# Altium schematic symbol library FPGA.SchLib: 5 symbols
Pins are listed as number, name and electrical type; pins without a type are passive.

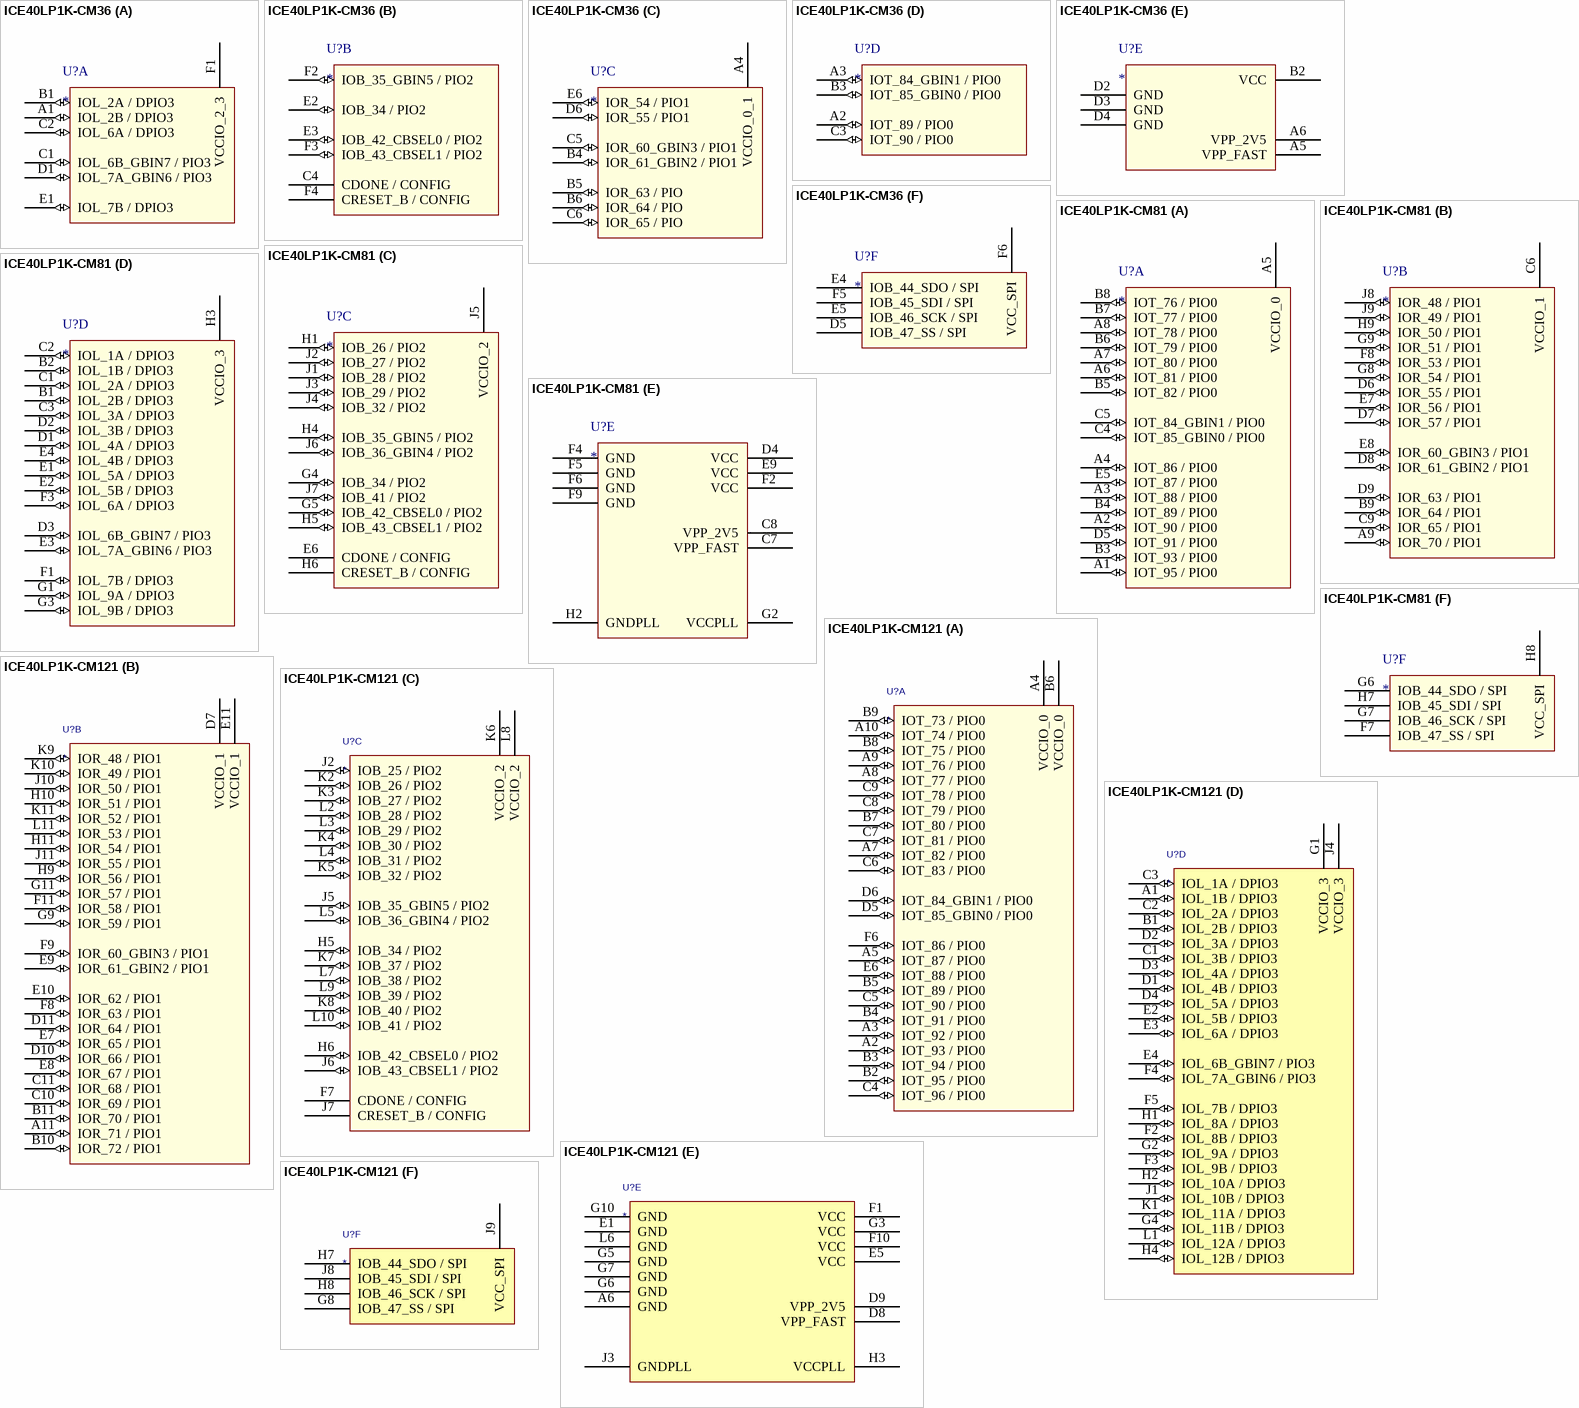
[diagram p0: symbols ICE40LP1K-CM36 to ICE40LP1K-CM121]

## ICE40LP1K-CM36
designator U?
CPLD
part A pins: A1 IOL_2B / DPIO3 (io), B1 IOL_2A / DPIO3 (io), C1 IOL_6B_GBIN7 / PIO3 (io), C2 IOL_6A / DPIO3 (io), D1 IOL_7A_GBIN6 / PIO3 (io), E1 IOL_7B / DPIO3 (io), F1 VCCIO_2_3
part B pins: C4 CDONE / CONFIG (power), E2 IOB_34 / PIO2 (io), E3 IOB_42_CBSEL0 / PIO2 (io), F2 IOB_35_GBIN5 / PIO2 (io), F3 IOB_43_CBSEL1 / PIO2 (io), F4 CRESET_B / CONFIG (power)
part C pins: A4 VCCIO_0_1, B4 IOR_61_GBIN2 / PIO1 (io), B5 IOR_63 / PIO (io), B6 IOR_64 / PIO (io), C5 IOR_60_GBIN3 / PIO1 (io), C6 IOR_65 / PIO (io), D6 IOR_55 / PIO1 (io), E6 IOR_54 / PIO1 (io)
part D pins: A2 IOT_89 / PIO0 (io), A3 IOT_84_GBIN1 / PIO0 (io), B3 IOT_85_GBIN0 / PIO0 (io), C3 IOT_90 / PIO0 (io)
part E pins: A5 VPP_FAST, A6 VPP_2V5 (power), B2 VCC (power), D2 GND (power), D3 GND (power), D4 GND (power)
part F pins: D5 IOB_47_SS / SPI (power), E4 IOB_44_SDO / SPI (power), E5 IOB_46_SCK / SPI (power), F5 IOB_45_SDI / SPI (power), F6 VCC_SPI (power)

## ICE40LP1K-CM81
designator U?
part A pins: A1 IOT_95 / PIO0 (io), A2 IOT_90 / PIO0 (io), A3 IOT_88 / PIO0 (io), A4 IOT_86 / PIO0 (io), A5 VCCIO_0 (power), A6 IOT_81 / PIO0 (io), A7 IOT_80 / PIO0 (io), A8 IOT_78 / PIO0 (io), B3 IOT_93 / PIO0 (io), B4 IOT_89 / PIO0 (io), B5 IOT_82 / PIO0 (io), B6 IOT_79 / PIO0 (io), B7 IOT_77 / PIO0 (io), B8 IOT_76 / PIO0 (io), C4 IOT_85_GBIN0 / PIO0 (io), C5 IOT_84_GBIN1 / PIO0 (io), D5 IOT_91 / PIO0 (io), E5 IOT_87 / PIO0 (io)
part B pins: A9 IOR_70 / PIO1 (io), B9 IOR_64 / PIO1 (io), C6 VCCIO_1 (power), C9 IOR_65 / PIO1 (io), D6 IOR_55 / PIO1 (io), D7 IOR_57 / PIO1 (io), D8 IOR_61_GBIN2 / PIO1 (io), D9 IOR_63 / PIO1 (io), E7 IOR_56 / PIO1 (io), E8 IOR_60_GBIN3 / PIO1 (io), F8 IOR_53 / PIO1 (io), G8 IOR_54 / PIO1 (io), G9 IOR_51 / PIO1 (io), H9 IOR_50 / PIO1 (io), J8 IOR_48 / PIO1 (io), J9 IOR_49 / PIO1 (io)
part C pins: E6 CDONE / CONFIG, G4 IOB_34 / PIO2 (io), G5 IOB_42_CBSEL0 / PIO2 (io), H1 IOB_26 / PIO2 (io), H4 IOB_35_GBIN5 / PIO2 (io), H5 IOB_43_CBSEL1 / PIO2 (io), H6 CRESET_B / CONFIG, J1 IOB_28 / PIO2 (io), J2 IOB_27 / PIO2 (io), J3 IOB_29 / PIO2 (io), J4 IOB_32 / PIO2 (io), J5 VCCIO_2 (power), J6 IOB_36_GBIN4 / PIO2 (io), J7 IOB_41 / PIO2 (io)
part D pins: B1 IOL_2B / DPIO3 (io), B2 IOL_1B / DPIO3 (io), C1 IOL_2A / DPIO3 (io), C2 IOL_1A / DPIO3 (io), C3 IOL_3A / DPIO3 (io), D1 IOL_4A / DPIO3 (io), D2 IOL_3B / DPIO3 (io), D3 IOL_6B_GBIN7 / PIO3 (io), E1 IOL_5A / DPIO3 (io), E2 IOL_5B / DPIO3 (io), E3 IOL_7A_GBIN6 / PIO3 (io), E4 IOL_4B / DPIO3 (io), F1 IOL_7B / DPIO3 (io), F3 IOL_6A / DPIO3 (io), G1 IOL_9A / DPIO3 (io), G3 IOL_9B / DPIO3 (io), H3 VCCIO_3 (power)
part E pins: C7 VPP_FAST, C8 VPP_2V5, D4 VCC, E9 VCC, F2 VCC, F4 GND (power), F5 GND (power), F6 GND (power), F9 GND (power), G2 VCCPLL, H2 GNDPLL
part F pins: F7 IOB_47_SS / SPI, G6 IOB_44_SDO / SPI, G7 IOB_46_SCK / SPI, H7 IOB_45_SDI / SPI, H8 VCC_SPI

## ICE40LP1K-CM121
designator U?
part A pins: A2 IOT_93 / PIO0 (io), A3 IOT_92 / PIO0 (io), A4 VCCIO_0 (power), A5 IOT_87 / PIO0 (io), A7 IOT_82 / PIO0 (io), A8 IOT_77 / PIO0 (io), A9 IOT_76 / PIO0 (io), A10 IOT_74 / PIO0 (io), B2 IOT_95 / PIO0 (io), B3 IOT_94 / PIO0 (io), B4 IOT_91 / PIO0 (io), B5 IOT_89 / PIO0 (io), B6 VCCIO_0 (power), B7 IOT_80 / PIO0 (io), B8 IOT_75 / PIO0 (io), B9 IOT_73 / PIO0 (io), C4 IOT_96 / PIO0 (io), C5 IOT_90 / PIO0 (io), C6 IOT_83 / PIO0 (io), C7 IOT_81 / PIO0 (io), C8 IOT_79 / PIO0 (io), C9 IOT_78 / PIO0 (io), D5 IOT_85_GBIN0 / PIO0 (io), D6 IOT_84_GBIN1 / PIO0 (io), E6 IOT_88 / PIO0 (io), F6 IOT_86 / PIO0 (io)
part B pins: A11 IOR_71 / PIO1 (io), B10 IOR_72 / PIO1 (io), B11 IOR_70 / PIO1 (io), C10 IOR_69 / PIO1 (io), C11 IOR_68 / PIO1 (io), D7 VCCIO_1 (power), D10 IOR_66 / PIO1 (io), D11 IOR_64 / PIO1 (io), E7 IOR_65 / PIO1 (io), E8 IOR_67 / PIO1 (io), E9 IOR_61_GBIN2 / PIO1 (io), E10 IOR_62 / PIO1 (io), E11 VCCIO_1 (power), F8 IOR_63 / PIO1 (io), F9 IOR_60_GBIN3 / PIO1 (io), F11 IOR_58 / PIO1 (io), G9 IOR_59 / PIO1 (io), G11 IOR_57 / PIO1 (io), H9 IOR_56 / PIO1 (io), H10 IOR_51 / PIO1 (io), H11 IOR_54 / PIO1 (io), J10 IOR_50 / PIO1 (io), J11 IOR_55 / PIO1 (io), K9 IOR_48 / PIO1 (io), K10 IOR_49 / PIO1 (io), K11 IOR_52 / PIO1 (io), L11 IOR_53 / PIO1 (io)
part C pins: F7 CDONE / CONFIG, H5 IOB_34 / PIO2 (io), H6 IOB_42_CBSEL0 / PIO2 (io), J2 IOB_25 / PIO2 (io), J5 IOB_35_GBIN5 / PIO2 (io), J6 IOB_43_CBSEL1 / PIO2 (io), J7 CRESET_B / CONFIG, K2 IOB_26 / PIO2 (io), K3 IOB_27 / PIO2 (io), K4 IOB_30 / PIO2 (io), K5 IOB_32 / PIO2 (io), K6 VCCIO_2 (power), K7 IOB_37 / PIO2 (io), K8 IOB_40 / PIO2 (io), L2 IOB_28 / PIO2 (io), L3 IOB_29 / PIO2 (io), L4 IOB_31 / PIO2 (io), L5 IOB_36_GBIN4 / PIO2 (io), L7 IOB_38 / PIO2 (io), L8 VCCIO_2 (power), L9 IOB_39 / PIO2 (io), L10 IOB_41 / PIO2 (io)
part D pins: A1 IOL_1B / DPIO3 (io), B1 IOL_2B / DPIO3 (io), C1 IOL_3B / DPIO3 (io), C2 IOL_2A / DPIO3 (io), C3 IOL_1A / DPIO3 (io), D1 IOL_4B / DPIO3 (io), D2 IOL_3A / DPIO3 (io), D3 IOL_4A / DPIO3 (io), D4 IOL_5A / DPIO3 (io), E2 IOL_5B / DPIO3 (io), E3 IOL_6A / DPIO3 (io), E4 IOL_6B_GBIN7 / PIO3 (io), F2 IOL_8B / DPIO3 (io), F3 IOL_9B / DPIO3 (io), F4 IOL_7A_GBIN6 / PIO3 (io), F5 IOL_7B / DPIO3 (io), G1 VCCIO_3 (power), G2 IOL_9A / DPIO3 (io), G4 IOL_11B / DPIO3 (io), H1 IOL_8A / DPIO3 (io), H2 IOL_10A / DPIO3 (io), H4 IOL_12B / DPIO3 (io), J1 IOL_10B / DPIO3 (io), J4 VCCIO_3 (power), K1 IOL_11A / DPIO3 (io), L1 IOL_12A / DPIO3 (io)
part E pins: A6 GND (power), D8 VPP_FAST, D9 VPP_2V5, E1 GND (power), E5 VCC, F1 VCC, F10 VCC, G3 VCC, G5 GND (power), G6 GND (power), G7 GND (power), G10 GND (power), H3 VCCPLL, J3 GNDPLL, L6 GND (power)
part F pins: G8 IOB_47_SS / SPI, H7 IOB_44_SDO / SPI, H8 IOB_46_SCK / SPI, J8 IOB_45_SDI / SPI, J9 VCC_SPI

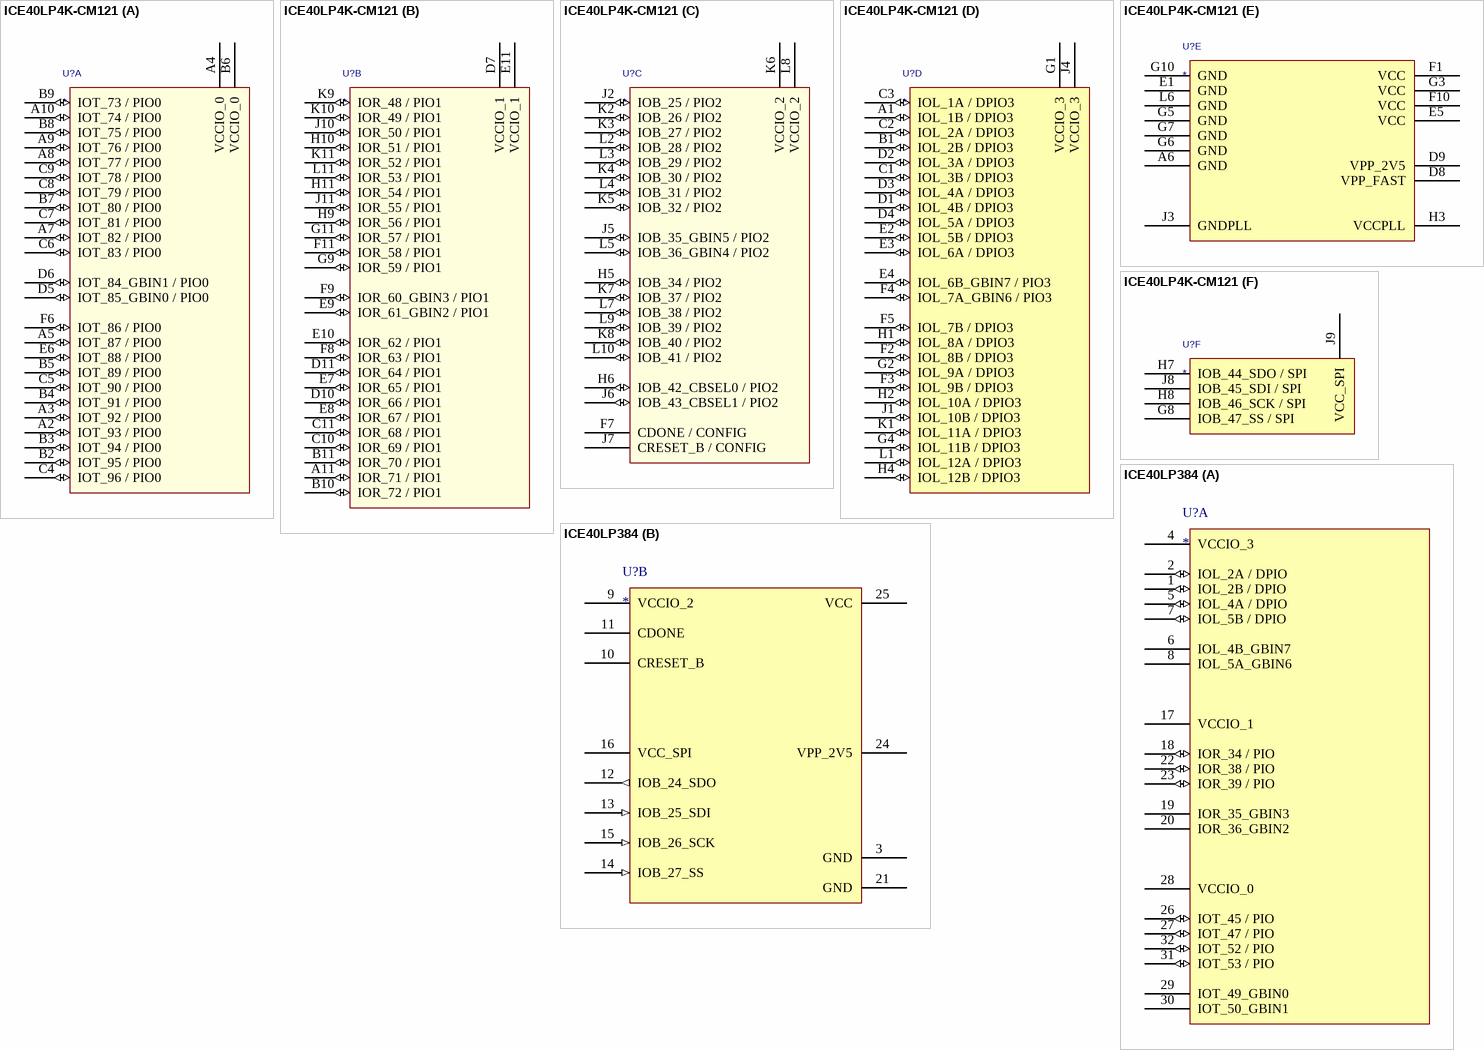
[diagram p1: symbols ICE40LP4K-CM121 to ICE40LP384]

## ICE40LP4K-CM121
designator U?
part A pins: A2 IOT_93 / PIO0 (io), A3 IOT_92 / PIO0 (io), A4 VCCIO_0 (power), A5 IOT_87 / PIO0 (io), A7 IOT_82 / PIO0 (io), A8 IOT_77 / PIO0 (io), A9 IOT_76 / PIO0 (io), A10 IOT_74 / PIO0 (io), B2 IOT_95 / PIO0 (io), B3 IOT_94 / PIO0 (io), B4 IOT_91 / PIO0 (io), B5 IOT_89 / PIO0 (io), B6 VCCIO_0 (power), B7 IOT_80 / PIO0 (io), B8 IOT_75 / PIO0 (io), B9 IOT_73 / PIO0 (io), C4 IOT_96 / PIO0 (io), C5 IOT_90 / PIO0 (io), C6 IOT_83 / PIO0 (io), C7 IOT_81 / PIO0 (io), C8 IOT_79 / PIO0 (io), C9 IOT_78 / PIO0 (io), D5 IOT_85_GBIN0 / PIO0 (io), D6 IOT_84_GBIN1 / PIO0 (io), E6 IOT_88 / PIO0 (io), F6 IOT_86 / PIO0 (io)
part B pins: A11 IOR_71 / PIO1 (io), B10 IOR_72 / PIO1 (io), B11 IOR_70 / PIO1 (io), C10 IOR_69 / PIO1 (io), C11 IOR_68 / PIO1 (io), D7 VCCIO_1 (power), D10 IOR_66 / PIO1 (io), D11 IOR_64 / PIO1 (io), E7 IOR_65 / PIO1 (io), E8 IOR_67 / PIO1 (io), E9 IOR_61_GBIN2 / PIO1 (io), E10 IOR_62 / PIO1 (io), E11 VCCIO_1 (power), F8 IOR_63 / PIO1 (io), F9 IOR_60_GBIN3 / PIO1 (io), F11 IOR_58 / PIO1 (io), G9 IOR_59 / PIO1 (io), G11 IOR_57 / PIO1 (io), H9 IOR_56 / PIO1 (io), H10 IOR_51 / PIO1 (io), H11 IOR_54 / PIO1 (io), J10 IOR_50 / PIO1 (io), J11 IOR_55 / PIO1 (io), K9 IOR_48 / PIO1 (io), K10 IOR_49 / PIO1 (io), K11 IOR_52 / PIO1 (io), L11 IOR_53 / PIO1 (io)
part C pins: F7 CDONE / CONFIG, H5 IOB_34 / PIO2 (io), H6 IOB_42_CBSEL0 / PIO2 (io), J2 IOB_25 / PIO2 (io), J5 IOB_35_GBIN5 / PIO2 (io), J6 IOB_43_CBSEL1 / PIO2 (io), J7 CRESET_B / CONFIG, K2 IOB_26 / PIO2 (io), K3 IOB_27 / PIO2 (io), K4 IOB_30 / PIO2 (io), K5 IOB_32 / PIO2 (io), K6 VCCIO_2 (power), K7 IOB_37 / PIO2 (io), K8 IOB_40 / PIO2 (io), L2 IOB_28 / PIO2 (io), L3 IOB_29 / PIO2 (io), L4 IOB_31 / PIO2 (io), L5 IOB_36_GBIN4 / PIO2 (io), L7 IOB_38 / PIO2 (io), L8 VCCIO_2 (power), L9 IOB_39 / PIO2 (io), L10 IOB_41 / PIO2 (io)
part D pins: A1 IOL_1B / DPIO3 (io), B1 IOL_2B / DPIO3 (io), C1 IOL_3B / DPIO3 (io), C2 IOL_2A / DPIO3 (io), C3 IOL_1A / DPIO3 (io), D1 IOL_4B / DPIO3 (io), D2 IOL_3A / DPIO3 (io), D3 IOL_4A / DPIO3 (io), D4 IOL_5A / DPIO3 (io), E2 IOL_5B / DPIO3 (io), E3 IOL_6A / DPIO3 (io), E4 IOL_6B_GBIN7 / PIO3 (io), F2 IOL_8B / DPIO3 (io), F3 IOL_9B / DPIO3 (io), F4 IOL_7A_GBIN6 / PIO3 (io), F5 IOL_7B / DPIO3 (io), G1 VCCIO_3 (power), G2 IOL_9A / DPIO3 (io), G4 IOL_11B / DPIO3 (io), H1 IOL_8A / DPIO3 (io), H2 IOL_10A / DPIO3 (io), H4 IOL_12B / DPIO3 (io), J1 IOL_10B / DPIO3 (io), J4 VCCIO_3 (power), K1 IOL_11A / DPIO3 (io), L1 IOL_12A / DPIO3 (io)
part E pins: A6 GND (power), D8 VPP_FAST, D9 VPP_2V5, E1 GND (power), E5 VCC, F1 VCC, F10 VCC, G3 VCC, G5 GND (power), G6 GND (power), G7 GND (power), G10 GND (power), H3 VCCPLL, J3 GNDPLL, L6 GND (power)
part F pins: G8 IOB_47_SS / SPI, H7 IOB_44_SDO / SPI, H8 IOB_46_SCK / SPI, J8 IOB_45_SDI / SPI, J9 VCC_SPI

## ICE40LP384
designator U?
part A pins: 1 IOL_2B / DPIO (io), 2 IOL_2A / DPIO (io), 4 VCCIO_3 (power), 5 IOL_4A / DPIO (io), 6 IOL_4B_GBIN7, 7 IOL_5B / DPIO (io), 8 IOL_5A_GBIN6, 17 VCCIO_1 (power), 18 IOR_34 / PIO (io), 19 IOR_35_GBIN3, 20 IOR_36_GBIN2, 22 IOR_38 / PIO (io), 23 IOR_39 / PIO (io), 26 IOT_45 / PIO (io), 27 IOT_47 / PIO (io), 28 VCCIO_0 (power), 29 IOT_49_GBIN0, 30 IOT_50_GBIN1, 31 IOT_53 / PIO (io), 32 IOT_52 / PIO (io)
part B pins: 3 GND (power), 9 VCCIO_2 (power), 10 CRESET_B, 11 CDONE, 12 IOB_24_SDO (out), 13 IOB_25_SDI (in), 14 IOB_27_SS (in), 15 IOB_26_SCK (in), 16 VCC_SPI (power), 21 GND (power), 24 VPP_2V5 (power), 25 VCC (power)